# EAGLE library part UART (library hw4)
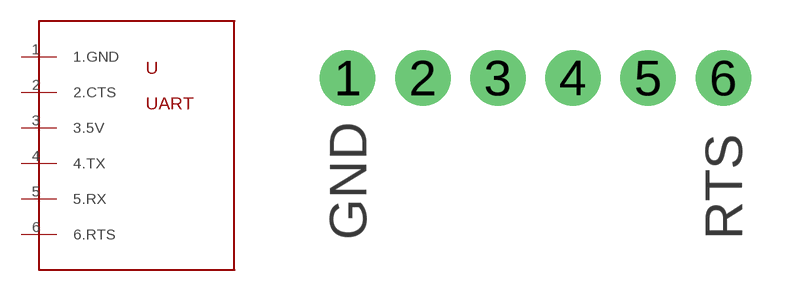
[diagram p2: symbol with the pads of USBUART; footprint USBUART]

Designator prefix -

## UART  [USBUART]
1  1.GND
2  2.CTS
3  3.5V
4  4.TX
5  5.RX
6  6.RTS

## Footprint USBUART (pad centres in mm)
drill 1.016 pad 1.88: 1 -6.35,0; 2 -3.81,0; 3 -1.27,0; 4 1.27,0; 5 3.81,0; 6 6.35,0